# Altium schematic symbol library HW_ADHERENT_LANECTRL_R1.SchLib: 1635 symbols (part 10 of 31)
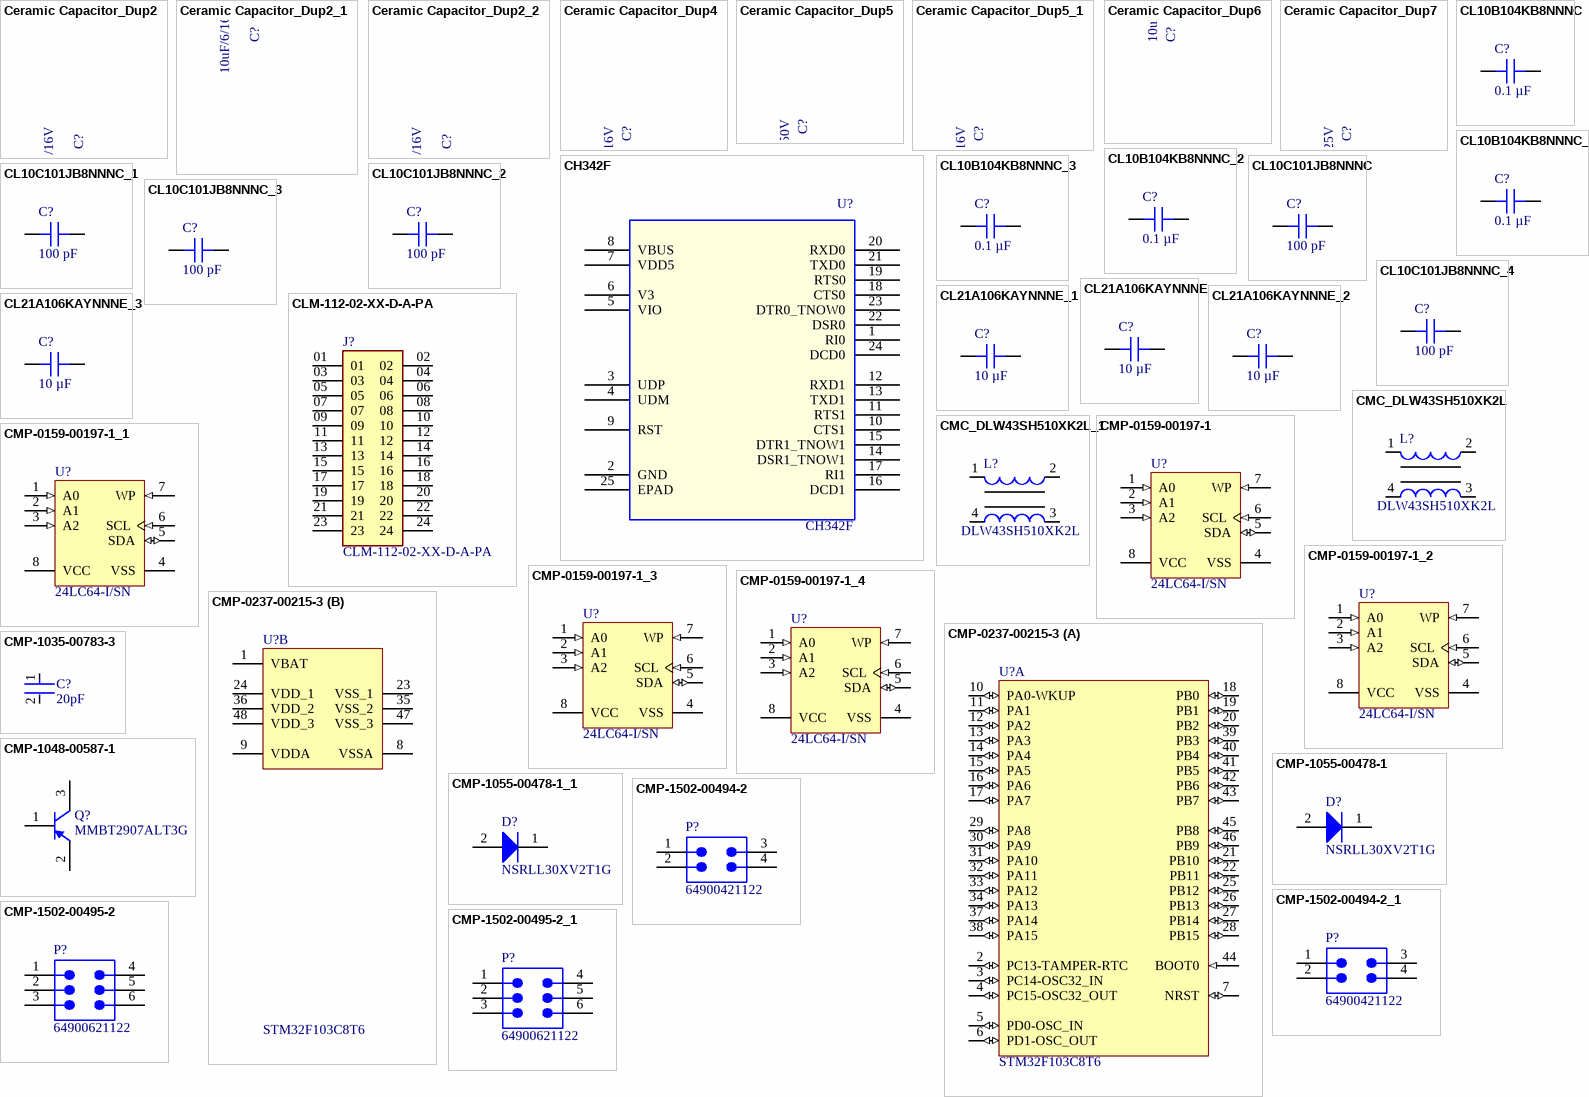
[diagram p60: symbols Ceramic Capacitor_Dup2 to CMP-1502-00495-2_1]

## CMP-0237-00215-3
designator U?, comment STM32F103C8T6
ARM Cortex-M3 32-bit MCU, 64 KB Flash, 20 KB Internal RAM, 37 I/Os, 48-pin LQFP, -40 to 85 degC, Tray; Supply Voltage(Vcc) min (V): 2; Internal RAM Size (kB): 20; FLASH Size (Prog) (kB): 64; A/D Converter: 2x12-bit (10 Channel); I/Os (High Current): 37; Operating Frequency(F) (Processor speed) (MHz): 72; Core: ARM Cortex-M3; ComponentLink3Description: Package Specification; Mounting Technology: Surface Mount; PartNumber: STM32F103C8T6; PackageReference: LQFP48; Packing: Tray; ComponentLink3URL: http://www.st.com/st-web-ui/static/active/en/resource/technical/document/datasheet/DM00058181.pdf; DatasheetVersion: Rev. 16; ComponentLink1URL: http://www.st.com/web/en/home.html; PackageVersion: Rev. 6, 06/2013; ComponentLink2URL: http://www.st.com/st-web-ui/static/active/en/resource/technical/document/datasheet/CD00161566.pdf; ComponentLink1Description: Manufacturer URL; ComponentLink2Description: Datasheet; PackageDescription: 48-Pin Low Profile Quad Flat Package, 7 x 7 mm Body, 0.5 mm Pitch
footprint STM-LQFP48_L (QFP, 48-Leads, Body 7x7mm, Pitch 0.5mm, IPC High Density)
footprint STM-LQFP48_N (QFP, 48-Leads, Body 7x7mm, Pitch 0.5mm, IPC Medium Density)
footprint STM-LQFP48_M (QFP, 48-Leads, Body 7x7mm, Pitch 0.5mm, IPC Low Density)
part A pins: 2 PC13-TAMPER-RTC (io) "PC13-TAMPER-RTC/PC13/TAMPER-RTC", 3 PC14-OSC32_IN (io) "PC14-OSC32_IN/PC14/OSC32_IN", 4 PC15-OSC32_OUT (io) "PC15-OSC32_OUT/PC15/OSC32_OUT", 5 PD0-OSC_IN (io) "PD0/OSC_IN", 6 PD1-OSC_OUT (io) "PD1/OSC_OUT", 7 NRST (io), 10 PA0-WKUP (io) "PA0-WKUP/PA0/WKUP/USART2_CTS/ADC12_IN0/TIM2_CH1_ETR", 11 PA1 (io) "PA1/USART2_RTS/ADC12_IN1/TIM2_CH2", 12 PA2 (io) "PA2/USART2_TX/ADC12_IN2/TIM2_CH3", 13 PA3 (io) "PA3/USART2_RX/ADC12_IN3/TIM2_CH4", 14 PA4 (io) "PA4/SPI1_NSS/USART2_CK/ADC12_IN4", 15 PA5 (io) "PA5/SPI1_SCK/ADC12_IN5", 16 PA6 (io) "PA6/SPI1_MISO/ADC12_IN6/TIM3_CH1/TIM1_BKIN", 17 PA7 (io) "PA7/SPI1_MOSI/ADC12_IN7/TIM3_CH2/TIM1_CH1N", 18 PB0 (io) "PB0/ADC12_IN8/TIM3_CH3/TIM1_CH2N", 19 PB1 (io) "PB1/ADC12_IN9/TIM3_CH4/TIM1_CH3N", 20 PB2 (io) "PB2/BOOT1", 21 PB10 (io) "PB10/I2C2_SCL/USART3_TX/TIM2_CH3", 22 PB11 (io) "PB11/I2C2_SDA/USART3_RX/TIM2_CH4", 25 PB12 (io) "PB12/SPI2_NSS/I2C2_SMBAl/USART3_CK/TIM1_BKIN", 26 PB13 (io) "PB13/SPI2_SCK/USART3_CTS/TIM1_CH1N", 27 PB14 (io) "PB14/SPI2_MISO/USART3_RTS/TIM1_CH2N", 28 PB15 (io) "PB15/SPI2_MOSI/TIM1_CH3N", 29 PA8 (io) "PA8/USART1_CK/TIM1_CH1/MCO", 30 PA9 (io) "PA9/USART1_TX/TIM1_CH2", 31 PA10 (io) "PA10/USART1_RX/TIM1_CH3", 32 PA11 (io) "PA11/USART1_CTS/CANRX/USBDM/TIM1_CH4", 33 PA12 (io) "PA12/USART1_RTS/CANTX/USBDP/TIM1_ETR", 34 PA13 (io) "PA13/JTMS/SWDIO", 37 PA14 (io) "PA14/JTCK/SWCLK", 38 PA15 (io) "PA15/JTDI/TIM2_CH1_ETR/SPI1_NSS", 39 PB3 (io) "PB3/JTDO/TIM2_CH2/TRACESWO/SPI1_SCK", 40 PB4 (io) "PB4/NJTRST/TIM3_CH1/SPI1_MISO", 41 PB5 (io) "PB5/I2C1_SMBAI/TIM3_CH2/SPI1_MOSI", 42 PB6 (io) "PB6/I2C1_SCL/TIM4_CH1/USART1_TX", 43 PB7 (io) "PB7/I2C1_SDA/TIM4_CH2/USART1_RX", 44 BOOT0 (in), 45 PB8 (io) "PB8/TIM4_CH3/I2C1_SCL/CANRX", 46 PB9 (io) "PB9/TIM4_CH4/I2C1_SDA/CANTX"
part B pins: 1 VBAT (power), 8 VSSA (power), 9 VDDA (power), 23 VSS_1 (power), 24 VDD_1 (power), 35 VSS_2 (power), 36 VDD_2 (power), 47 VSS_3 (power), 48 VDD_3 (power)

## CMP-1035-00783-3
designator C?, comment 20pF
CAP CER 20PF 50V 5% NP0 0603; Manufacturer Part Number: C0603C200J5GACTU; Manufacturer: KEMET; Temperature Coefficient: 30ppm/°C; Temperature Characteristic: C0G; Automotive Grade: Grade 1; Tolerance: 0.05; Material: Ceramic; Category: Cap; Temperature Range Low: -55°C; RoHS: TRUE; ComponentLink2URL: https://api.kemet.com/component-edge/download/datasheet/C0603C100J5GACAUTO.pdf; Package: C0603C-CF; Height: 0.87mm; Capacitance: 20 pF; Voltage Rating: 50 V; Octopart: https://octopart.com/c0603c200j5gactu-kemet-9138585; Device Class L1: Passive Components; Automotive: Yes; Digikey Description: CAP CER 20PF 50V 5% NP0 0603; Temperature Range High: +125°C; Device Class L3: Ceramic Capacitors; Mouser Description: Multilayer Ceramic Capacitors MLCC - SMD/SMT 50volts 20pF C0G 5%; ComponentLink2Description: Datasheet; Device Class L2: Capacitors; Lead Free: Yes; Temperature: -55°C to +125°C; Value: 20 pF
footprint FP-C0603C-CF-MFG
footprint FP-C0603C-CF-IPC_C
footprint FP-C0603C-CF-IPC_B
footprint FP-C0603C-CF-IPC_A
pins: 1, 2

## CMP-1048-00587-1
designator Q?, comment MMBT2907ALT3G
General Purpose Transistor, PNP Silicon, 3-Pin SOT-23, Pb-Free, Tape and Reel; Manufacturer: ON Semiconductor; Collector Emitter Voltage (VCEO): 60V; Max Power Dissipation: 300mW; Max Collector Current: 600mA; Emitter Base Voltage (VEBO): 5V; Element Configuration: Single; hFE Min: 75; Number of Elements: 1; Collector Emitter Saturation Voltage: -1.6V; Gain Bandwidth Product: 200MHz; Collector-emitter Voltage-Max: 1.6V; Voltage Rating (DC): -60V; Current Rating: -600mA; Max Frequency: 100MHz; ComponentLink1Description: Manufacturer URL; ComponentLink2Description: Datasheet; ComponentLink2URL: http://www.onsemi.cn/pub_link/Collateral/MMBT2907ALT1-D.PDF; ComponentLink1URL: http://www.onsemi.com/; ComponentLink3Description: Package Specification; ComponentLink3URL: http://www.onsemi.cn/pub_link/Collateral/318-08.PDF; Supplier 1: Digi-Key; Supplier Part Number 1: MMBT2907ALT3GOSCT-ND; Manufacturer Part Number: MMBT2907ALT3G; RoHS: Yes; Category: BJTs; Stock 1: 3486; Pricing 1: 1=0,18000, 10=0,16100, 25=0,15360, 100=0,08790, 500=0,05410, 1000=0,03689, 2500=0,03136, 5000=0,02828 (USD); Case/Package: SOT-23-3; Number of Pins: 3; Contact Plating: Tin,Matte; Min Operating Temperature: -55°C; Max Operating Temperature: 150°C; Packaging: Tape and Reel; Polarity: PNP; Package Quantity: 10000; Collector Base Voltage (VCBO): 60V; Collector Emitter Breakdown Voltage: 60V; Power Dissipation: 300mW; Frequency: 200MHz; Transition Frequency: 200MHz; Max Breakdown Voltage: 60V; Series: -; Length: 3.04mm; Width: 1.4mm; Height: 1.01mm; Radiation Hardening: No; RoHS Compliant: Yes; Lead Free: Lead Free; REACH SVHC: No SVHC; ComponentLink4URL: https://datasheet.ciiva.com/980/mmbt2907alt1-d-980631.pdf?src-supplier=Digi-Key; ComponentLink4Description: https://datasheet.ciiva.com/980/mmbt2907alt1-d-980631.pdf?src-supplier=Digi-Key; ComponentLink5URL: https://datasheet.ciiva.com/16390/mmbt2907alt1-d-16390999.pdf?src-supplier=Future+Electronics; ComponentLink5Description: https://datasheet.ciiva.com/16390/mmbt2907alt1-d-16390999.pdf?src-supplier=Future+Electronics; ComponentLink6URL: https://datasheet.ciiva.com/980/mmbt2907alt1-d-980632.pdf?src-supplier=Digi-Key; ComponentLink6Description: https://datasheet.ciiva.com/980/mmbt2907alt1-d-980632.pdf?src-supplier=Digi-Key; ComponentLink7URL: https://datasheet.ciiva.com/11198/mmbt2907alt1-d-11198984.pdf?src-supplier=Avnet; ComponentLink7Description: https://datasheet.ciiva.com/11198/mmbt2907alt1-d-11198984.pdf?src-supplier=Avnet; ComponentLink8URL: https://datasheet.ciiva.com/980/mmbt2907alt1-d-980633.pdf?src-supplier=Digi-Key; ComponentLink8Description: https://datasheet.ciiva.com/980/mmbt2907alt1-d-980633.pdf?src-supplier=Digi-Key; ComponentLink9URL: https://datasheet.ciiva.com/7972/mmbt2907alt1-d-7972377.pdf?src-supplier=Element14; ComponentLink9Description: https://datasheet.ciiva.com/7972/mmbt2907alt1-d-7972377.pdf?src-supplier=Element14; ComponentLink10URL: https://datasheet.ciiva.com/11198/mmbt2907alt1-d-11198986.pdf?src-supplier=Avnet; ComponentLink10Description: https://datasheet.ciiva.com/11198/mmbt2907alt1-d-11198986.pdf?src-supplier=Avnet
footprint ONSC-SOT-23-3-318-08_V (SOT23, 3-Leads, Body 2.92x1.3mm, Pitch 0.95mm)
pins: 1 B, 2 E, 3 C

## CMP-1055-00478-1
designator D?, comment NSRLL30XV2T1G
Schottky Barrier Diode, 2-Pin SOD-523, Pb-Free, Tape and Reel; Manufacturer: On Semiconductor; Configuration: Single; PackageReference: SOD-523-2-502-01; PackageVersion: Rev. E, 09/2010; ComponentLink1Description: Manufacturer URL; ComponentLink2URL: http://www.onsemi.cn/pub_link/Collateral/NSRLL30XV2-D.PDF; PartNumber: NSRLL30XV2T1G; PackageDescription: 2-Pin SOD, Body 1.2 x 0.8 mm; RoHS: TRUE; Mounting Technology: Surface Mount; ComponentLink3URL: http://www.onsemi.com/pub_link/Collateral/502-01.PDF; ComponentLink3Description: Package Specification; Packing: Tape and Reel; ComponentLink2Description: Datasheet; DatasheetVersion: Rev. 1; ComponentLink1URL: http://www.onsemi.com/; Manufacturer: ON Semiconductor; Manufacturer Part Number: NSRLL30XV2T1G
footprint ONSC-SOD-523-2-502-01_V (SOD, 2-Leads, Body 1.2x0.8mm)
pins: 1 K, 2 A

## CMP-1055-00478-1_1
designator D?, comment NSRLL30XV2T1G
Schottky Barrier Diode, 2-Pin SOD-523, Pb-Free, Tape and Reel; Manufacturer: On Semiconductor; Configuration: Single; PackageReference: SOD-523-2-502-01; PackageVersion: Rev. E, 09/2010; ComponentLink1Description: Manufacturer URL; ComponentLink2URL: http://www.onsemi.cn/pub_link/Collateral/NSRLL30XV2-D.PDF; PartNumber: NSRLL30XV2T1G; PackageDescription: 2-Pin SOD, Body 1.2 x 0.8 mm; RoHS: TRUE; Mounting Technology: Surface Mount; ComponentLink3URL: http://www.onsemi.com/pub_link/Collateral/502-01.PDF; ComponentLink3Description: Package Specification; Packing: Tape and Reel; ComponentLink2Description: Datasheet; DatasheetVersion: Rev. 1; ComponentLink1URL: http://www.onsemi.com/; Manufacturer: ON Semiconductor; Manufacturer Part Number: NSRLL30XV2T1G
footprint ONSC-SOD-523-2-502-01_V (SOD, 2-Leads, Body 1.2x0.8mm)
pins: 1 K, 2 A

## CMP-1502-00494-2
designator P?, comment 64900421122
NexarPartId: 8917579; Manufacturer: Wurth Electronics; Lead Length: 3.5mm; Pitch: 4.2mm; Number of Contacts: 4; Contact Resistance: 10mΩ; Gender: Male; Connector Type: Male Pin, Socket; Voltage Rating: 600V; Insulation Resistance: 1GΩ; Row Spacing: 5.5118mm; Current Rating: 8A; RoHS: Compliant; Number of Rows: 2; Housing Material: Nylon; Min Operating Temperature: -40°C; Flammability Rating: UL94 V-0; Contact Plating: Tin; REACH SVHC: Unknown; Orientation: Vertical; Contact Material: Copper; Mount: Through Hole; Max Operating Temperature: 105°C; Number of Pins: 4; Width: 9.7mm; Termination: Through Hole; Lead Pitch: 4.2mm; Number of Positions: 4; Contact Gender: Male; Color: White; Height: 12.8mm; Fastening Type: Ramp; Operating Supply Voltage: 600V; Length: 9.6mm; Manufacturer Part Number: 64900421122
footprint 64900421122 (Connector, 4.20mm Male Dual Row Vertical Header, 4 Pins, WR-MPC4)
pins: 1, 2, 3, 4

## CMP-1502-00494-2_1
designator P?, comment 64900421122
NexarPartId: 8917579; Manufacturer: Wurth Electronics; Lead Length: 3.5mm; Pitch: 4.2mm; Number of Contacts: 4; Contact Resistance: 10mΩ; Gender: Male; Connector Type: Male Pin, Socket; Voltage Rating: 600V; Insulation Resistance: 1GΩ; Row Spacing: 5.5118mm; Current Rating: 8A; RoHS: Compliant; Number of Rows: 2; Housing Material: Nylon; Min Operating Temperature: -40°C; Flammability Rating: UL94 V-0; Contact Plating: Tin; REACH SVHC: Unknown; Orientation: Vertical; Contact Material: Copper; Mount: Through Hole; Max Operating Temperature: 105°C; Number of Pins: 4; Width: 9.7mm; Termination: Through Hole; Lead Pitch: 4.2mm; Number of Positions: 4; Contact Gender: Male; Color: White; Height: 12.8mm; Fastening Type: Ramp; Operating Supply Voltage: 600V; Length: 9.6mm; Manufacturer Part Number: 64900421122
footprint 64900421122 (Connector, 4.20mm Male Dual Row Vertical Header, 4 Pins, WR-MPC4)
pins: 1, 2, 3, 4

## CMP-1502-00495-2
designator P?, comment 64900621122
NexarPartId: 8917580; Manufacturer: Wurth Electronics; Voltage Rating: 600V; Number of Positions: 6; Gender: Male; Row Spacing: 5.5118mm; Contact Resistance: 10mΩ; Connector Type: Male Pin, Socket; Pitch: 4.2mm; Insulation Resistance: 1GΩ; Current Rating: 8A; Lead Length: 3.5mm; Housing Material: Nylon; Length: 13.8mm; Fastening Type: Ramp; Orientation: Vertical; RoHS: Compliant; Mount: Through Hole; Number of Contacts: 6; Max Operating Temperature: 105°C; Termination: Through Hole; REACH SVHC: Unknown; Color: White; Contact Gender: Male; Lead Pitch: 4.2mm; Flammability Rating: UL94 V-0; Operating Supply Voltage: 600V; Width: 13.9mm; Min Operating Temperature: -40°C; Contact Material: Copper; Number of Rows: 2; Number of Pins: 6; Contact Plating: Tin; Height: 12.8mm; Manufacturer Part Number: 64900621122
footprint 64900621122 (WR-MPC4; 4.2mm Pitch 6 Way 2 Row Shrouded Straight PCB Header, Through Hole)
pins: 1, 2, 3, 4, 5, 6

## CMP-1502-00495-2_1
designator P?, comment 64900621122
NexarPartId: 8917580; Manufacturer: Wurth Electronics; Voltage Rating: 600V; Number of Positions: 6; Gender: Male; Row Spacing: 5.5118mm; Contact Resistance: 10mΩ; Connector Type: Male Pin, Socket; Pitch: 4.2mm; Insulation Resistance: 1GΩ; Current Rating: 8A; Lead Length: 3.5mm; Housing Material: Nylon; Length: 13.8mm; Fastening Type: Ramp; Orientation: Vertical; RoHS: Compliant; Mount: Through Hole; Number of Contacts: 6; Max Operating Temperature: 105°C; Termination: Through Hole; REACH SVHC: Unknown; Color: White; Contact Gender: Male; Lead Pitch: 4.2mm; Flammability Rating: UL94 V-0; Operating Supply Voltage: 600V; Width: 13.9mm; Min Operating Temperature: -40°C; Contact Material: Copper; Number of Rows: 2; Number of Pins: 6; Contact Plating: Tin; Height: 12.8mm; Manufacturer Part Number: 64900621122
footprint 64900621122 (WR-MPC4; 4.2mm Pitch 6 Way 2 Row Shrouded Straight PCB Header, Through Hole)
pins: 1, 2, 3, 4, 5, 6

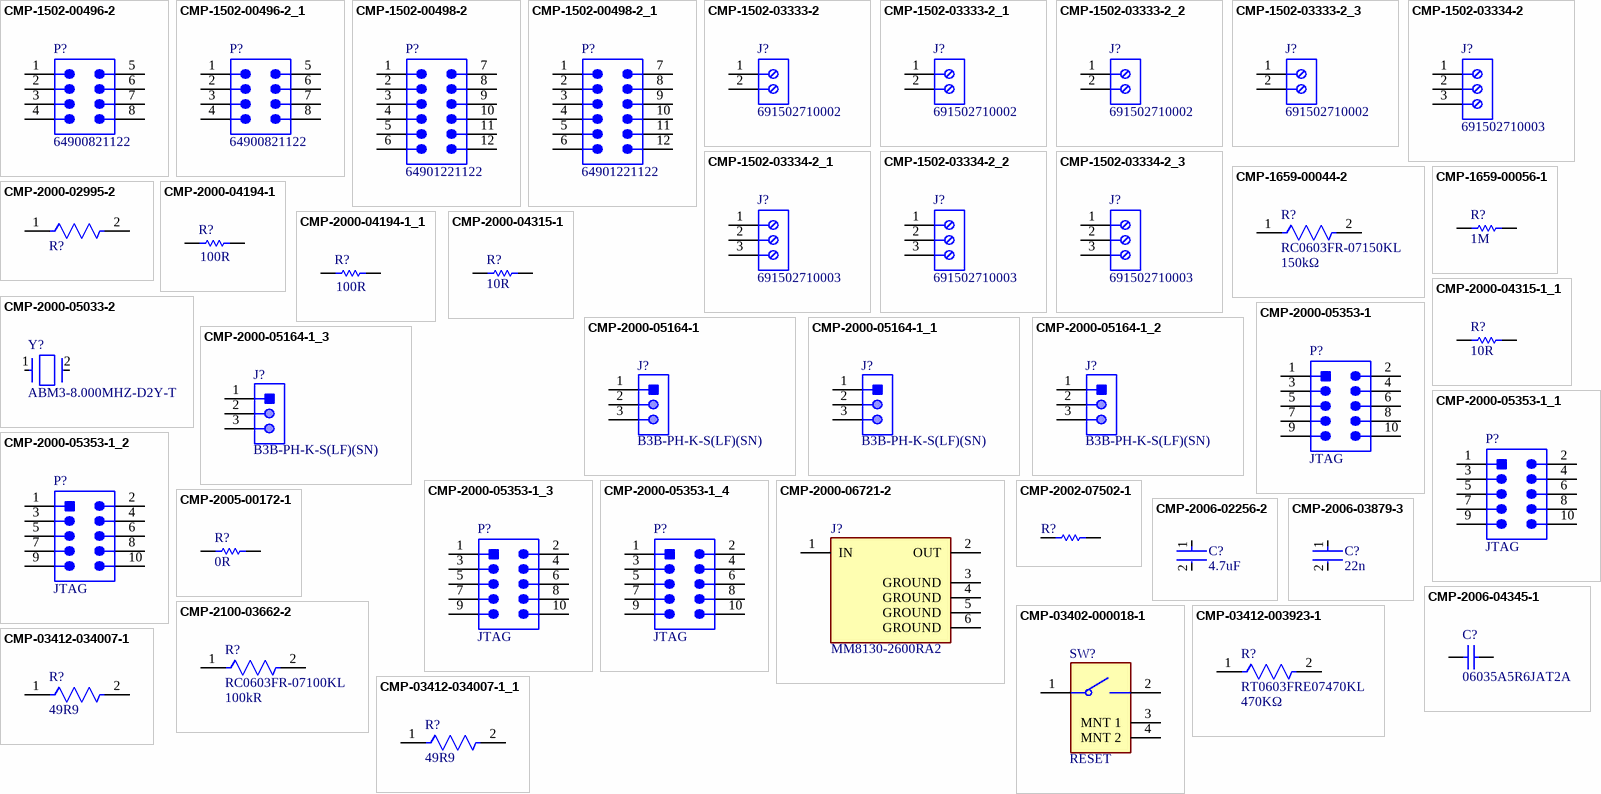
[diagram p13: symbols CMP-1502-00496-2 to CMP-03412-034007-1_1]

## CMP-1502-00496-2
designator P?, comment 64900821122
NexarPartId: 8917581; Manufacturer: Wurth Electronics; Connector Type: Male Pin, Socket; Operating Supply Voltage: 600V; Pitch: 4.2mm; Gender: Male; Number of Positions: 8; Contact Resistance: 10mΩ; Insulation Resistance: 1GΩ; Row Spacing: 5.5118mm; Current Rating: 7A; Insulation: Insulated; Flammability Rating: UL94 V-0; Max Operating Temperature: 105°C; Orientation: Vertical; Min Operating Temperature: -40°C; Contact Gender: Male; Number of Pins: 8; Lead Pitch: 4.2mm; Width: 18.1mm; Height: 9.6mm; REACH SVHC: Unknown; Number of Rows: 2; Number of Contacts: 8; Fastening Type: Ramp; Termination: Through Hole; Housing Material: Nylon; Contact Plating: Tin; Length: 18mm; Contact Material: Copper; Voltage Rating: 600V; RoHS: Compliant; Mount: Through Hole; Color: White; Manufacturer Part Number: 64900821122
footprint 64900821122 (WR-MPC4; 4.2mm Pitch 8 Way 2 Row Shrouded Straight PCB Header, Through Hole)
pins: 1, 2, 3, 4, 5, 6, 7, 8

## CMP-1502-00496-2_1
designator P?, comment 64900821122
NexarPartId: 8917581; Manufacturer: Wurth Electronics; Connector Type: Male Pin, Socket; Operating Supply Voltage: 600V; Pitch: 4.2mm; Gender: Male; Number of Positions: 8; Contact Resistance: 10mΩ; Insulation Resistance: 1GΩ; Row Spacing: 5.5118mm; Current Rating: 7A; Insulation: Insulated; Flammability Rating: UL94 V-0; Max Operating Temperature: 105°C; Orientation: Vertical; Min Operating Temperature: -40°C; Contact Gender: Male; Number of Pins: 8; Lead Pitch: 4.2mm; Width: 18.1mm; Height: 9.6mm; REACH SVHC: Unknown; Number of Rows: 2; Number of Contacts: 8; Fastening Type: Ramp; Termination: Through Hole; Housing Material: Nylon; Contact Plating: Tin; Length: 18mm; Contact Material: Copper; Voltage Rating: 600V; RoHS: Compliant; Mount: Through Hole; Color: White; Manufacturer Part Number: 64900821122
footprint 64900821122 (WR-MPC4; 4.2mm Pitch 8 Way 2 Row Shrouded Straight PCB Header, Through Hole)
pins: 1, 2, 3, 4, 5, 6, 7, 8

## CMP-1502-00498-2
designator P?, comment 64901221122
NexarPartId: 23024617; Manufacturer: Wurth Electronics; Connector Type: Male Pin, Socket; Row Spacing: 4.191mm; Contact Resistance: 10mΩ; Number of Positions: 12; Insulation Resistance: 1GΩ; Current Rating: 6A; Pitch: 4.2mm; Gender: Male; Operating Supply Voltage: 600V; Min Operating Temperature: -40°C; Height: 12.8mm; Termination: Solder; Contact Material: Copper; Orientation: Vertical; Color: White; Length: 26.4mm; Number of Rows: 2; Mount: Through Hole; Width: 26.5mm; Contact Plating: Tin; RoHS: Compliant; Fastening Type: Ramp; Max Operating Temperature: 105°C; Lead Pitch: 4.2mm; Number of Contacts: 12; REACH SVHC: Unknown; Number of Pins: 12; Manufacturer Part Number: 64901221122
footprint 64901221122 (Connector, 4.20mm Male Dual Row Vertical Header, 12 Pins, WR-MPC4)
pins: 1, 2, 3, 4, 5, 6, 7, 8, 9, 10, 11, 12

## CMP-1502-00498-2_1
designator P?, comment 64901221122
NexarPartId: 23024617; Manufacturer: Wurth Electronics; Connector Type: Male Pin, Socket; Row Spacing: 4.191mm; Contact Resistance: 10mΩ; Number of Positions: 12; Insulation Resistance: 1GΩ; Current Rating: 6A; Pitch: 4.2mm; Gender: Male; Operating Supply Voltage: 600V; Min Operating Temperature: -40°C; Height: 12.8mm; Termination: Solder; Contact Material: Copper; Orientation: Vertical; Color: White; Length: 26.4mm; Number of Rows: 2; Mount: Through Hole; Width: 26.5mm; Contact Plating: Tin; RoHS: Compliant; Fastening Type: Ramp; Max Operating Temperature: 105°C; Lead Pitch: 4.2mm; Number of Contacts: 12; REACH SVHC: Unknown; Number of Pins: 12; Manufacturer Part Number: 64901221122
footprint 64901221122 (Connector, 4.20mm Male Dual Row Vertical Header, 12 Pins, WR-MPC4)
pins: 1, 2, 3, 4, 5, 6, 7, 8, 9, 10, 11, 12

## CMP-1502-03333-2
designator J?, comment 691502710002
NexarPartId: 106069304; Pitch: 5mm; Packaging: Box; Length: 10mm; Max Operating Temperature: 130°C; Min Operating Temperature: -45°C; Number of Pins: 2
footprint 691502710002 (Terminal Block, Wtb, 2Way, 22-14Awg Rohs Compliant: Yes)
pins: 1, 2

## CMP-1502-03333-2_1
designator J?, comment 691502710002
NexarPartId: 106069304; Pitch: 5mm; Packaging: Box; Length: 10mm; Max Operating Temperature: 130°C; Min Operating Temperature: -45°C; Number of Pins: 2
footprint 691502710002 (Terminal Block, Wtb, 2Way, 22-14Awg Rohs Compliant: Yes)
pins: 1, 2

## CMP-1502-03333-2_2
designator J?, comment 691502710002
NexarPartId: 106069304; Pitch: 5mm; Packaging: Box; Length: 10mm; Max Operating Temperature: 130°C; Min Operating Temperature: -45°C; Number of Pins: 2
footprint 691502710002 (Terminal Block, Wtb, 2Way, 22-14Awg Rohs Compliant: Yes)
pins: 1, 2

## CMP-1502-03333-2_3
designator J?, comment 691502710002
NexarPartId: 106069304; Pitch: 5mm; Packaging: Box; Length: 10mm; Max Operating Temperature: 130°C; Min Operating Temperature: -45°C; Number of Pins: 2
footprint 691502710002 (Terminal Block, Wtb, 2Way, 22-14Awg Rohs Compliant: Yes)
pins: 1, 2

## CMP-1502-03334-2
designator J?, comment 691502710003
NexarPartId: 106069305; Pitch: 5mm; Max Operating Temperature: 130°C; Min Operating Temperature: -45°C; Length: 15mm; Packaging: Box; Number of Pins: 3
footprint 691502710003 (Terminal Block, Wtb, 3Way, 22-14Awg Rohs Compliant: Yes)
pins: 1, 2, 3

## CMP-1502-03334-2_1
designator J?, comment 691502710003
NexarPartId: 106069305; Pitch: 5mm; Max Operating Temperature: 130°C; Min Operating Temperature: -45°C; Length: 15mm; Packaging: Box; Number of Pins: 3
footprint 691502710003 (Terminal Block, Wtb, 3Way, 22-14Awg Rohs Compliant: Yes)
pins: 1, 2, 3

## CMP-1502-03334-2_2
designator J?, comment 691502710003
NexarPartId: 106069305; Pitch: 5mm; Max Operating Temperature: 130°C; Min Operating Temperature: -45°C; Length: 15mm; Packaging: Box; Number of Pins: 3
footprint 691502710003 (Terminal Block, Wtb, 3Way, 22-14Awg Rohs Compliant: Yes)
pins: 1, 2, 3

## CMP-1502-03334-2_3
designator J?, comment 691502710003
NexarPartId: 106069305; Pitch: 5mm; Max Operating Temperature: 130°C; Min Operating Temperature: -45°C; Length: 15mm; Packaging: Box; Number of Pins: 3
footprint 691502710003 (Terminal Block, Wtb, 3Way, 22-14Awg Rohs Compliant: Yes)
pins: 1, 2, 3

## CMP-1659-00044-2
designator R?, comment RC0603FR-07150KL  Resistance: 150kΩ
NexarPartId: 40301068; Voltage Rating (AC): 50V; Max Power Dissipation: 100mW; Tolerance: 1%; Temperature Coefficient: 100ppm/°C; Max Operating Temperature: 155°C; Features: Moisture Resistant; Width: 800µm; Case Code (Imperial): 0603; Depth: 800µm; Number of Terminations: 2; Voltage Rating (DC): 50V; Mount: Surface Mount; Termination: SMD/SMT; REACH SVHC: No SVHC; Military Standard: Not; Case Code (Metric): 1608; Schedule B: 8533210045, 8533210045; Number of Pins: 2; Min Operating Temperature: -55°C; Lead Free: Lead Free; Packaging: Tape & Reel; Length: 1.6mm; Height: 450µm; Power Rating: 100mW; Voltage Rating: 50V; Case/Package: 0603; Composition: Thick Film; RoHS: Compliant
footprint FP-RC0603-0_55-MFG (SMD Chip Resistor, 3.3 kOhm, ± 1%, 100 mW, 0603 [1608 Metric], Thick Film, General Purpose)
footprint FP-RC0603-0_55-IPC_A (SMD Chip Resistor, 3.3 kOhm, ± 1%, 100 mW, 0603 [1608 Metric], Thick Film, General Purpose)
footprint FP-RC0603-0_55-IPC_B (SMD Chip Resistor, 3.3 kOhm, ± 1%, 100 mW, 0603 [1608 Metric], Thick Film, General Purpose)
footprint FP-RC0603-0_55-IPC_C (SMD Chip Resistor, 3.3 kOhm, ± 1%, 100 mW, 0603 [1608 Metric], Thick Film, General Purpose)
pins: 1, 2

## CMP-1659-00056-1
designator R?, comment 1M
Chip Resistor, 1 MOhm, +/- 1%, 100 mW, -55 to 155 degC, 0603 (1608 Metric), RoHS, Tape and Reel; Voltage Rating (DC): 25 V; Tolerance: 20%; Case\Package: Radial; Capacitance: 1 mF; Min Operating Temperature: -40 degC; PackageDescription: 2-Pin Surface Mount Device, Body 1.6 x 0.8 mm; ComponentLink1Description: Manufacturer URL; Radiation Hardening: No; DatasheetVersion: Rev. 4, 02/2016; REACH SVHC: No SVHC; Length: 20 mm; Max Operating Temperature: 85 degC; Diameter: 10 mm; Packaging: Bulk; Package Quantity: 200; PackageReference: 0603; Mount: Through Hole; ComponentLink1URL: http://www.yageo.com/; ComponentLink2URL: http://www.yageo.com/documents/recent/PYu-RC_Group_51_RoHS_L_04.pdf; ComponentLink2Description: Datasheet; Width: 0 inch; Lead Pitch: 5 mm; RoHSCompliant: true; Voltage Rating: 25 V; Height: 20 mm
footprint RESC1608X55X25LL10T15 (Chip Resistor, 2-Leads, Body 1.70x0.90mm, IPC High Density)
footprint RESC1608X55X25ML10T15 (Chip Resistor, 2-Leads, Body 1.70x0.90mm, IPC Low Density)
footprint RESC1608X55X25NL10T15 (Chip Resistor, 2-Leads, Body 1.70x0.90mm, IPC Medium Density)
pins: 1, 2

## CMP-2000-02995-2
designator R?, comment CRCW06031K50FKEA  (value not drawn)
RES Thick Film, 1.5kΩ, 1%, 0.1W, 100ppm/°C, 0603; Working Voltage: 75V; Power Rating: 100mW; Resistance: 1.5kR; Max Operating Temperature: 155°C; Features: Automotive AEC-Q200; Min Operating Temperature: -55°C; Width: 0.033inch; Case/Package: 0603; Voltage Rating (DC): 75V; Termination: SMD/SMT; Mount: Surface Mount; Weight: 7.1E-05oz; Case Code (Metric): 1608; Height: 0.45mm; Voltage Rating: 75V; Length: 1.55mm; Package Quantity: 10; Lead Free: Lead Free; Composition: Thick Film; Packaging: Tape and Reel; Temperature Coefficient: 100ppm/°C; Tolerance: 1%; Military Standard: Not; Case Code (Imperial): 0603; Number of Terminations: 2; Max Power Dissipation: 100mW; Depth: 0.85mm; Contact Plating: Tin
footprint FP-CRCW0603-e3-IPC_A
footprint FP-CRCW0603-e3-IPC_B
footprint FP-CRCW0603-e3-IPC_C
footprint FP-CRCW0603-e3-MFG
pins: 1, 2

## CMP-2000-04194-1
designator R?, comment 100R
Part Number: RC0603FR-13100RL; Manufacturer: Yageo; Manufacturer Part Number: RC0603FR-13100RL
footprint RESC1608X55X25NL10T15 (Chip Resistor, 2-Leads, Body 1.60x0.80mm, IPC Medium Density)
footprint RESC1608X55X25LL10T15 (Chip Resistor, 2-Leads, Body 1.60x0.80mm, IPC High Density)
footprint RESC1608X55X25ML10T15 (Chip Resistor, 2-Leads, Body 1.60x0.80mm, IPC Low Density)
pins: 1, 2
1 alternate drawing of the same symbol

## CMP-2000-04194-1_1
designator R?, comment 100R
Part Number: RC0603FR-13100RL; Manufacturer: Yageo; Manufacturer Part Number: RC0603FR-13100RL
footprint RESC1608X55X25NL10T15 (Chip Resistor, 2-Leads, Body 1.60x0.80mm, IPC Medium Density)
footprint RESC1608X55X25LL10T15 (Chip Resistor, 2-Leads, Body 1.60x0.80mm, IPC High Density)
footprint RESC1608X55X25ML10T15 (Chip Resistor, 2-Leads, Body 1.60x0.80mm, IPC Low Density)
pins: 1, 2
1 alternate drawing of the same symbol

## CMP-2000-04315-1
designator R?, comment 10R
Part Number: RC0603JR-1310RL; Manufacturer: Yageo; Manufacturer Part Number: RC0603JR-1310RL
footprint RESC1608X55X25LL10T15 (Chip Resistor, 2-Leads, Body 1.60x0.80mm, IPC High Density)
footprint RESC1608X55X25ML10T15 (Chip Resistor, 2-Leads, Body 1.60x0.80mm, IPC Low Density)
footprint RESC1608X55X25NL10T15 (Chip Resistor, 2-Leads, Body 1.60x0.80mm, IPC Medium Density)
pins: 1, 2
1 alternate drawing of the same symbol

## CMP-2000-04315-1_1
designator R?, comment 10R
Part Number: RC0603JR-1310RL; Manufacturer: Yageo; Manufacturer Part Number: RC0603JR-1310RL
footprint RESC1608X55X25LL10T15 (Chip Resistor, 2-Leads, Body 1.60x0.80mm, IPC High Density)
footprint RESC1608X55X25ML10T15 (Chip Resistor, 2-Leads, Body 1.60x0.80mm, IPC Low Density)
footprint RESC1608X55X25NL10T15 (Chip Resistor, 2-Leads, Body 1.60x0.80mm, IPC Medium Density)
pins: 1, 2
1 alternate drawing of the same symbol

## CMP-2000-05033-2
designator Y?, comment ABM3-8.000MHZ-D2Y-T
Crystal 8MHz ±20ppm 18pF SMD-2 5mm x 3.2mm; Series Resistance: 500R; Frequency Stability: 30ppm; ESR (Equivalent Series Resistance): 140R; Load Capacitance: 18pF; Height: 0.051inch; Tolerance: 20ppm; Depth: 3.2mm; Max Operating Temperature: 85°C; Frequency: 8MHz; Termination: SMD/SMT; Lead Free: Lead Free; Number of Pins: 2; Width: 3.2mm; RoHS Compliant: Yes; Resistor Type: Ceramic; Length: 5mm; Mount: Surface Mount; Case/Package: CSMD; Package Quantity: 1000; Radiation Hardening: No; Min Operating Temperature: -40°C; Packaging: Tape and Reel; Frequency Tolerance: 20ppm
footprint FP-ABM3-MFG
pins: 1, 2

## CMP-2000-05164-1
designator J?, comment B3B-PH-K-S(LF)(SN)
Male Header, Pitch 2 mm, 1 x 3 Position, Height 6 mm, Tail Length 3.4 mm, -25 to 85 degC, RoHS, Bulk; Manufacturer: JST; Style/Orientation: StraightHeader/Plug; Pitch: 2mm; No of Positions: 3; Termination: Crimp; Manufacturer URL: http://www.jst.com/home2.html; Datasheet Version: Oct-06; Type: ShroudedHeader; Datasheet URL: https://datasheet.ciiva.com/11746/0900766b80826550-11746939.pdf
footprint JST-B3B-PH-K-S-3_V (Connector, 3-Leads, Body 7.9x4.5mm, Pitch 2mm)
pins: 1, 2, 3

## CMP-2000-05164-1_1
designator J?, comment B3B-PH-K-S(LF)(SN)
Male Header, Pitch 2 mm, 1 x 3 Position, Height 6 mm, Tail Length 3.4 mm, -25 to 85 degC, RoHS, Bulk; Manufacturer: JST; Style/Orientation: StraightHeader/Plug; Pitch: 2mm; No of Positions: 3; Termination: Crimp; Manufacturer URL: http://www.jst.com/home2.html; Datasheet Version: Oct-06; Type: ShroudedHeader; Datasheet URL: https://datasheet.ciiva.com/11746/0900766b80826550-11746939.pdf
footprint JST-B3B-PH-K-S-3_V (Connector, 3-Leads, Body 7.9x4.5mm, Pitch 2mm)
pins: 1, 2, 3

## CMP-2000-05164-1_2
designator J?, comment B3B-PH-K-S(LF)(SN)
Male Header, Pitch 2 mm, 1 x 3 Position, Height 6 mm, Tail Length 3.4 mm, -25 to 85 degC, RoHS, Bulk; Manufacturer: JST; Style/Orientation: StraightHeader/Plug; Pitch: 2mm; No of Positions: 3; Termination: Crimp; Manufacturer URL: http://www.jst.com/home2.html; Datasheet Version: Oct-06; Type: ShroudedHeader; Datasheet URL: https://datasheet.ciiva.com/11746/0900766b80826550-11746939.pdf
footprint JST-B3B-PH-K-S-3_V (Connector, 3-Leads, Body 7.9x4.5mm, Pitch 2mm)
pins: 1, 2, 3

## CMP-2000-05164-1_3
designator J?, comment B3B-PH-K-S(LF)(SN)
Male Header, Pitch 2 mm, 1 x 3 Position, Height 6 mm, Tail Length 3.4 mm, -25 to 85 degC, RoHS, Bulk; Manufacturer: JST; Style/Orientation: StraightHeader/Plug; Pitch: 2mm; No of Positions: 3; Termination: Crimp; Manufacturer URL: http://www.jst.com/home2.html; Datasheet Version: Oct-06; Type: ShroudedHeader; Datasheet URL: https://datasheet.ciiva.com/11746/0900766b80826550-11746939.pdf
footprint JST-B3B-PH-K-S-3_V (Connector, 3-Leads, Body 7.9x4.5mm, Pitch 2mm)
pins: 1, 2, 3

## CMP-2000-05353-1
designator P?, comment JTAG
CONN HEADER SMD 10POS 1.27MM; Manufacturer: Samtec; Manufacturer Part Number: FTSH-105-01-L-DV-K; Number of Contacts: 10; Gender: Male; Max Current Rating: 1.75A; Connector Type: Male Pin; Row Spacing: 0.05inch; ComponentLink1URL: https://datasheet.ciiva.com/26936/getdatasheetpartid-175877-26936879.pdf?src-supplier=Verical; ComponentLink1Description: https://datasheet.ciiva.com/26936/getdatasheetpartid-175877-26936879.pdf?src-supplier=Verical; ComponentLink2URL: https://datasheet.ciiva.com/728/ftsh-1xx-xx-xxx-dv-xxx-mkt-728872.pdf?src-supplier=Digi-Key; ComponentLink2Description: https://datasheet.ciiva.com/728/ftsh-1xx-xx-xxx-dv-xxx-mkt-728872.pdf?src-supplier=Digi-Key; ComponentLink3URL: https://datasheet.ciiva.com/10245/ftsh-mt-10245272.pdf?src-supplier=Avnet; ComponentLink3Description: https://datasheet.ciiva.com/10245/ftsh-mt-10245272.pdf?src-supplier=Avnet; ComponentLink4URL: https://datasheet.ciiva.com/16657/ftsh-mt-16657372.pdf?src-supplier=Avnet+Europe; ComponentLink4Description: https://datasheet.ciiva.com/16657/ftsh-mt-16657372.pdf?src-supplier=Avnet+Europe; ComponentLink5URL: https://datasheet.ciiva.com/22703/ftsh-smt-22703900.pdf?src-supplier=Element14; ComponentLink5Description: https://datasheet.ciiva.com/22703/ftsh-smt-22703900.pdf?src-supplier=Element14; Supplier 1: Digi-Key; Supplier Part Number 1: SAM8799-ND; RoHS: Yes; Category: Headers and Wire Housings; Stock 1: 34196; Pricing 1: 1=3,91000, 10=3,75700, 100=3,13100, 500=2,66136, 1000=2,26998 (USD); Mount: Surface Mount; Contact Plating: Gold; Contact Material: Bronze; Housing Color: Black; Housing Material: Polymer; Color: Black; Min Operating Temperature: -55°C; Max Operating Temperature: 125°C; Number of Rows: 2; Termination: Solder; Packaging: Rail/Tube; Orientation: Straight; Package Quantity: 1; Number of Positions: 10; Series: FTSH; Contact Type: Male Pin; Length: 6.35mm; Pitch: 1.27mm; Depth: 3.43mm; Contact Mating Length: 0.12inch; Radiation Hardening: No; Lead Free: Lead Free; RoHS Compliant: Yes; REACH SVHC: No SVHC
footprint SMTC-FTSH-105-01-L-DV-K_V (CONN, 10-Leads, Body 6.35x3.43mm, Pitch 1.27mm)
pins: 1, 2, 3, 4, 5, 6, 7, 8, 9, 10

## CMP-2000-05353-1_1
designator P?, comment JTAG
CONN HEADER SMD 10POS 1.27MM; Manufacturer: Samtec; Manufacturer Part Number: FTSH-105-01-L-DV-K; Number of Contacts: 10; Gender: Male; Max Current Rating: 1.75A; Connector Type: Male Pin; Row Spacing: 0.05inch; ComponentLink1URL: https://datasheet.ciiva.com/26936/getdatasheetpartid-175877-26936879.pdf?src-supplier=Verical; ComponentLink1Description: https://datasheet.ciiva.com/26936/getdatasheetpartid-175877-26936879.pdf?src-supplier=Verical; ComponentLink2URL: https://datasheet.ciiva.com/728/ftsh-1xx-xx-xxx-dv-xxx-mkt-728872.pdf?src-supplier=Digi-Key; ComponentLink2Description: https://datasheet.ciiva.com/728/ftsh-1xx-xx-xxx-dv-xxx-mkt-728872.pdf?src-supplier=Digi-Key; ComponentLink3URL: https://datasheet.ciiva.com/10245/ftsh-mt-10245272.pdf?src-supplier=Avnet; ComponentLink3Description: https://datasheet.ciiva.com/10245/ftsh-mt-10245272.pdf?src-supplier=Avnet; ComponentLink4URL: https://datasheet.ciiva.com/16657/ftsh-mt-16657372.pdf?src-supplier=Avnet+Europe; ComponentLink4Description: https://datasheet.ciiva.com/16657/ftsh-mt-16657372.pdf?src-supplier=Avnet+Europe; ComponentLink5URL: https://datasheet.ciiva.com/22703/ftsh-smt-22703900.pdf?src-supplier=Element14; ComponentLink5Description: https://datasheet.ciiva.com/22703/ftsh-smt-22703900.pdf?src-supplier=Element14; Supplier 1: Digi-Key; Supplier Part Number 1: SAM8799-ND; RoHS: Yes; Category: Headers and Wire Housings; Stock 1: 34196; Pricing 1: 1=3,91000, 10=3,75700, 100=3,13100, 500=2,66136, 1000=2,26998 (USD); Mount: Surface Mount; Contact Plating: Gold; Contact Material: Bronze; Housing Color: Black; Housing Material: Polymer; Color: Black; Min Operating Temperature: -55°C; Max Operating Temperature: 125°C; Number of Rows: 2; Termination: Solder; Packaging: Rail/Tube; Orientation: Straight; Package Quantity: 1; Number of Positions: 10; Series: FTSH; Contact Type: Male Pin; Length: 6.35mm; Pitch: 1.27mm; Depth: 3.43mm; Contact Mating Length: 0.12inch; Radiation Hardening: No; Lead Free: Lead Free; RoHS Compliant: Yes; REACH SVHC: No SVHC
footprint SMTC-FTSH-105-01-L-DV-K_V (CONN, 10-Leads, Body 6.35x3.43mm, Pitch 1.27mm)
pins: 1, 2, 3, 4, 5, 6, 7, 8, 9, 10

## CMP-2000-05353-1_2
designator P?, comment JTAG
CONN HEADER SMD 10POS 1.27MM; Manufacturer: Samtec; Manufacturer Part Number: FTSH-105-01-L-DV-K; Number of Contacts: 10; Gender: Male; Max Current Rating: 1.75A; Connector Type: Male Pin; Row Spacing: 0.05inch; ComponentLink1URL: https://datasheet.ciiva.com/26936/getdatasheetpartid-175877-26936879.pdf?src-supplier=Verical; ComponentLink1Description: https://datasheet.ciiva.com/26936/getdatasheetpartid-175877-26936879.pdf?src-supplier=Verical; ComponentLink2URL: https://datasheet.ciiva.com/728/ftsh-1xx-xx-xxx-dv-xxx-mkt-728872.pdf?src-supplier=Digi-Key; ComponentLink2Description: https://datasheet.ciiva.com/728/ftsh-1xx-xx-xxx-dv-xxx-mkt-728872.pdf?src-supplier=Digi-Key; ComponentLink3URL: https://datasheet.ciiva.com/10245/ftsh-mt-10245272.pdf?src-supplier=Avnet; ComponentLink3Description: https://datasheet.ciiva.com/10245/ftsh-mt-10245272.pdf?src-supplier=Avnet; ComponentLink4URL: https://datasheet.ciiva.com/16657/ftsh-mt-16657372.pdf?src-supplier=Avnet+Europe; ComponentLink4Description: https://datasheet.ciiva.com/16657/ftsh-mt-16657372.pdf?src-supplier=Avnet+Europe; ComponentLink5URL: https://datasheet.ciiva.com/22703/ftsh-smt-22703900.pdf?src-supplier=Element14; ComponentLink5Description: https://datasheet.ciiva.com/22703/ftsh-smt-22703900.pdf?src-supplier=Element14; Supplier 1: Digi-Key; Supplier Part Number 1: SAM8799-ND; RoHS: Yes; Category: Headers and Wire Housings; Stock 1: 34196; Pricing 1: 1=3,91000, 10=3,75700, 100=3,13100, 500=2,66136, 1000=2,26998 (USD); Mount: Surface Mount; Contact Plating: Gold; Contact Material: Bronze; Housing Color: Black; Housing Material: Polymer; Color: Black; Min Operating Temperature: -55°C; Max Operating Temperature: 125°C; Number of Rows: 2; Termination: Solder; Packaging: Rail/Tube; Orientation: Straight; Package Quantity: 1; Number of Positions: 10; Series: FTSH; Contact Type: Male Pin; Length: 6.35mm; Pitch: 1.27mm; Depth: 3.43mm; Contact Mating Length: 0.12inch; Radiation Hardening: No; Lead Free: Lead Free; RoHS Compliant: Yes; REACH SVHC: No SVHC
footprint SMTC-FTSH-105-01-L-DV-K_V (CONN, 10-Leads, Body 6.35x3.43mm, Pitch 1.27mm)
pins: 1, 2, 3, 4, 5, 6, 7, 8, 9, 10

## CMP-2000-05353-1_3
designator P?, comment JTAG
CONN HEADER SMD 10POS 1.27MM; Manufacturer: Samtec; Manufacturer Part Number: FTSH-105-01-L-DV-K; Number of Contacts: 10; Gender: Male; Max Current Rating: 1.75A; Connector Type: Male Pin; Row Spacing: 0.05inch; ComponentLink1URL: https://datasheet.ciiva.com/26936/getdatasheetpartid-175877-26936879.pdf?src-supplier=Verical; ComponentLink1Description: https://datasheet.ciiva.com/26936/getdatasheetpartid-175877-26936879.pdf?src-supplier=Verical; ComponentLink2URL: https://datasheet.ciiva.com/728/ftsh-1xx-xx-xxx-dv-xxx-mkt-728872.pdf?src-supplier=Digi-Key; ComponentLink2Description: https://datasheet.ciiva.com/728/ftsh-1xx-xx-xxx-dv-xxx-mkt-728872.pdf?src-supplier=Digi-Key; ComponentLink3URL: https://datasheet.ciiva.com/10245/ftsh-mt-10245272.pdf?src-supplier=Avnet; ComponentLink3Description: https://datasheet.ciiva.com/10245/ftsh-mt-10245272.pdf?src-supplier=Avnet; ComponentLink4URL: https://datasheet.ciiva.com/16657/ftsh-mt-16657372.pdf?src-supplier=Avnet+Europe; ComponentLink4Description: https://datasheet.ciiva.com/16657/ftsh-mt-16657372.pdf?src-supplier=Avnet+Europe; ComponentLink5URL: https://datasheet.ciiva.com/22703/ftsh-smt-22703900.pdf?src-supplier=Element14; ComponentLink5Description: https://datasheet.ciiva.com/22703/ftsh-smt-22703900.pdf?src-supplier=Element14; Supplier 1: Digi-Key; Supplier Part Number 1: SAM8799-ND; RoHS: Yes; Category: Headers and Wire Housings; Stock 1: 34196; Pricing 1: 1=3,91000, 10=3,75700, 100=3,13100, 500=2,66136, 1000=2,26998 (USD); Mount: Surface Mount; Contact Plating: Gold; Contact Material: Bronze; Housing Color: Black; Housing Material: Polymer; Color: Black; Min Operating Temperature: -55°C; Max Operating Temperature: 125°C; Number of Rows: 2; Termination: Solder; Packaging: Rail/Tube; Orientation: Straight; Package Quantity: 1; Number of Positions: 10; Series: FTSH; Contact Type: Male Pin; Length: 6.35mm; Pitch: 1.27mm; Depth: 3.43mm; Contact Mating Length: 0.12inch; Radiation Hardening: No; Lead Free: Lead Free; RoHS Compliant: Yes; REACH SVHC: No SVHC
footprint SMTC-FTSH-105-01-L-DV-K_V (CONN, 10-Leads, Body 6.35x3.43mm, Pitch 1.27mm)
pins: 1, 2, 3, 4, 5, 6, 7, 8, 9, 10

## CMP-2000-05353-1_4
designator P?, comment JTAG
CONN HEADER SMD 10POS 1.27MM; Manufacturer: Samtec; Manufacturer Part Number: FTSH-105-01-L-DV-K; Number of Contacts: 10; Gender: Male; Max Current Rating: 1.75A; Connector Type: Male Pin; Row Spacing: 0.05inch; ComponentLink1URL: https://datasheet.ciiva.com/26936/getdatasheetpartid-175877-26936879.pdf?src-supplier=Verical; ComponentLink1Description: https://datasheet.ciiva.com/26936/getdatasheetpartid-175877-26936879.pdf?src-supplier=Verical; ComponentLink2URL: https://datasheet.ciiva.com/728/ftsh-1xx-xx-xxx-dv-xxx-mkt-728872.pdf?src-supplier=Digi-Key; ComponentLink2Description: https://datasheet.ciiva.com/728/ftsh-1xx-xx-xxx-dv-xxx-mkt-728872.pdf?src-supplier=Digi-Key; ComponentLink3URL: https://datasheet.ciiva.com/10245/ftsh-mt-10245272.pdf?src-supplier=Avnet; ComponentLink3Description: https://datasheet.ciiva.com/10245/ftsh-mt-10245272.pdf?src-supplier=Avnet; ComponentLink4URL: https://datasheet.ciiva.com/16657/ftsh-mt-16657372.pdf?src-supplier=Avnet+Europe; ComponentLink4Description: https://datasheet.ciiva.com/16657/ftsh-mt-16657372.pdf?src-supplier=Avnet+Europe; ComponentLink5URL: https://datasheet.ciiva.com/22703/ftsh-smt-22703900.pdf?src-supplier=Element14; ComponentLink5Description: https://datasheet.ciiva.com/22703/ftsh-smt-22703900.pdf?src-supplier=Element14; Supplier 1: Digi-Key; Supplier Part Number 1: SAM8799-ND; RoHS: Yes; Category: Headers and Wire Housings; Stock 1: 34196; Pricing 1: 1=3,91000, 10=3,75700, 100=3,13100, 500=2,66136, 1000=2,26998 (USD); Mount: Surface Mount; Contact Plating: Gold; Contact Material: Bronze; Housing Color: Black; Housing Material: Polymer; Color: Black; Min Operating Temperature: -55°C; Max Operating Temperature: 125°C; Number of Rows: 2; Termination: Solder; Packaging: Rail/Tube; Orientation: Straight; Package Quantity: 1; Number of Positions: 10; Series: FTSH; Contact Type: Male Pin; Length: 6.35mm; Pitch: 1.27mm; Depth: 3.43mm; Contact Mating Length: 0.12inch; Radiation Hardening: No; Lead Free: Lead Free; RoHS Compliant: Yes; REACH SVHC: No SVHC
footprint SMTC-FTSH-105-01-L-DV-K_V (CONN, 10-Leads, Body 6.35x3.43mm, Pitch 1.27mm)
pins: 1, 2, 3, 4, 5, 6, 7, 8, 9, 10

## CMP-2000-06721-2
designator J?, comment MM8130-2600RA2
CONN SWF RCPT STR 50 OHM SMD; Manufacturer: Murata; Frequency: 6GHz; Number Of Contacts: 2; Conn Orientation: Vertical; Impedance: 50Ω; Automotive: No; Device Class L2: RF / Coaxial Connectors; Height: 1.5mm; RoHS: TRUE; Temperature Range High: +85°C; ComponentLink2URL: https://media.digikey.com/pdf/Data%20Sheets/Murata%20PDFs/Microwave_Coaxial_Conn_Cat030E.pdf; ComponentLink2Description: Datasheet; Temperature Range Low: -40°C; Lead Free: Yes; Device Class L1: Connectors; Octopart: https://octopart.com/mm8130-2600ra2-murata-7861560; Category: Conn; Device Class L3: unset; Mouser Description: RF Connectors / Coaxial Connectors CONNECTOR; Package: 0; Temperature: -40°C to +85°C; Contact Material: Gold; Manufacturer Part Number: MM8130-2600RA2; Digikey Description: CONN SWF RCPT STR 50 OHM SMD
footprint FP-MM8130-2600RA2-MFG
pins: 1 IN, 2 OUT, 3 GROUND (power), 4 GROUND (power), 5 GROUND (power), 6 GROUND (power)

## CMP-2002-07502-1
designator R?, comment RC0402FR-0720RL  (value not drawn)
Manufacturer: Yageo / Phycomp; Part Number: RC0402FR-0720RL
footprint RESC1005X40X25LL05T10 (Chip Resistor, 2-Leads, Body 1.00x0.50mm, IPC High Density)
footprint RESC1005X40X25NL05T10 (Chip Resistor, 2-Leads, Body 1.00x0.50mm, IPC Medium Density)
footprint RESC1005X40X25ML05T10 (Chip Resistor, 2-Leads, Body 1.00x0.50mm, IPC Low Density)
pins: 1, 2
1 alternate drawing of the same symbol

## CMP-2005-00172-1
designator R?, comment 0R
Part Number: CRCW12100000Z0EAHP; Manufacturer: Vishay Dale
footprint RESC3225X60X45ML20T20 (Chip Resistor, 2-Leads, Body 3.20x2.50mm, IPC Low Density)
footprint RESC3225X60X45NL20T20 (Chip Resistor, 2-Leads, Body 3.20x2.50mm, IPC Medium Density)
footprint RESC3225X60X45LL20T20 (Chip Resistor, 2-Leads, Body 3.20x2.50mm, IPC High Density)
pins: 1, 2
1 alternate drawing of the same symbol

## CMP-2006-02256-2
designator C?, comment 4.7uF
CAP CER 4.7UF 6.3V X5R 0603; Manufacturer: Kemet; Manufacturer Part Number: C0603C475K9PACTU; Temperature Coefficient: 15%; Tolerance: 10%; Material: Ceramic; Device Class L3: Ceramic Capacitors; RoHS: TRUE; Value: 4.7uF; Lead Free: Yes; ComponentLink2Description: Datasheet; Mouser Description: Multilayer Ceramic Capacitors MLCC - SMD/SMT 6.3volts 4.7uF X5R 10%; Package: C0603-CG; Digikey Description: CAP CER 4.7UF 6.3V X5R 0603; ComponentLink2URL: https://content.kemet.com/datasheets/KEM_C1006_X5R_SMD.pdf; Category: Cap; Temperature Range Low: -55°C; Capacitance: 4.7uF; Temperature: -55°C to +85°C; Octopart: https://octopart.com/c0603c475k9pactu-kemet-104242; Ipc Land Pattern Name: CAPC16080X80; Voltage Rating: 6.3V; Temperature Range High: +85°C; Height: 0.9mm; Temperature Characteristic: X5R; Device Class L1: Passive Components; Automotive: No; Device Class L2: Capacitors
footprint FP-C0603-CG-MFG
footprint FP-C0603-CG-IPC_C
footprint FP-C0603-CG-IPC_B
footprint FP-C0603-CG-IPC_A
pins: 1, 2

## CMP-2006-03879-3
designator C?, comment 22n
Ceramic Capacitor 0.022Uf 50V, X7R, 10%, 0603, Full Reel; Manufacturer Part Number: C0603C223K5RACTU; Manufacturer: KEMET; Automotive Grade: Grade 1; Capacitance: 22,000 pF; Value: 22,000 pF; Tolerance: 0.1; Temperature Coefficient: 30ppm/°C; Material: Ceramic; Mouser Description: Capacitor; Ceramic; Cap; .022uF; Tol+10%; SMT; Vol-Rtg 50V; X7R; TR; Voltage Rating: 50 V; Category: Cap; Device Class L2: Capacitors; RoHS: TRUE; Package: C0603C-CF; Device Class L1: Passive Components; Temperature Range Low: -55°C; Octopart: https://octopart.com/c0603c223k5ractu-kemet-97352; Temperature: -55°C to +125°C; Temperature Range High: +125°C; Automotive: Yes; Lead Free: Yes; ComponentLink2URL: https://api.kemet.com/component-edge/download/datasheet/C0603C100J5GACAUTO.pdf; Temperature Characteristic: X7R; Height: 0.87mm; Device Class L3: Ceramic Capacitors; Digikey Description: Ceramic Capacitor 0.022Uf 50V, X7R, 10%, 0603, Full Reel; ComponentLink2Description: Datasheet
footprint FP-C0603C-CF-MFG
footprint FP-C0603C-CF-IPC_C
footprint FP-C0603C-CF-IPC_B
footprint FP-C0603C-CF-IPC_A
pins: 1, 2

## CMP-2006-04345-1
designator C?, comment 06035A5R6JAT2A
Manufacturer: AVX Interconnect / Elco; Part Number: 06035A5R6JAT2A
footprint CAPC1608X90X35ML15T15 (Chip Capacitor, 2-Leads, Body 1.60x0.81mm, IPC Low Density)
footprint CAPC1608X90X35LL15T15 (Chip Capacitor, 2-Leads, Body 1.60x0.81mm, IPC High Density)
footprint CAPC1608X90X35NL15T15 (Chip Capacitor, 2-Leads, Body 1.60x0.81mm, IPC Medium Density)
pins: 1, 2
1 alternate drawing of the same symbol

## CMP-2100-03662-2
designator R?, comment RC0603FR-07100KL  Resistance: 100kR
RES SMD 100K OHM 1% 1/10W 0603; Voltage Rating (DC): 50V; Max Power Dissipation: 100mW; Temperature Coefficient: 100ppm/°C; Working Voltage: 75V; Length: 1.6mm; Lead Free: Lead Free; Number of Terminations: 2; Packaging: Tape and Reel; Voltage Rating: 50V; Termination: SMD/SMT; Width: 0.8mm; Resistor Type: Thick Film; Resistance Tolerance: 1%; Features: Moisture Resistant; Height: 0.45mm; Construction: Rectangular; Case/Package: 0603; Military Standard: Not; Case Code (Imperial): 0603; Series: RC; Technology: THICK FILM; Depth: 0.8mm; RoHS Compliant: Yes; REACH SVHC: No SVHC; Min Operating Temperature: -55°C; Case Code (Metric): 1608; Max Operating Temperature: 155°C; Power Rating: 100mW; Number of Pins: 2; Tolerance: 1%
footprint FP-RC0603-0_55-MFG
footprint FP-RC0603-0_55-IPC_C
footprint FP-RC0603-0_55-IPC_B
footprint FP-RC0603-0_55-IPC_A
pins: 1, 2

## CMP-03402-000018-1
designator SW?, comment RESET
SWITCH TACTILE SPST-NO 0.05A 24V; Manufacturer: TE Connectivity; Manufacturer Part Number: 1-1825027-7; Mechanical Life: 100000Cycles; Actuator Material: PBT; Actuator Color: White; Throw Configuration: SPST; Operating Force: 1.57N; Illumination Type: Non-Illuminated; Contact Resistance: 100mR; Contact Current Rating: 50mA; Switch Travel: 0.25mm; Switch Function: Off-Mom; Actuator Type: Standard; Actuator Length: 4.24mm; Supplier 1: Digi-Key; Supplier Part Number 1: 450-1660-ND; RoHS: Yes; Category: Pushbutton Switches; Stock 1: 84971; Pricing 1: 1=0,22000, 10=0,21600, 25=0,20480, 100=0,18530, 250=0,16896, 500=0,15706, 1000=0,13399, 2500=0,13026, 5000=0,12282 (USD); Mount: Through Hole; Contact Material: Copper Alloy; Contact Plating: Silver; Min Operating Temperature: -35°C; Max Operating Temperature: 85°C; Voltage Rating (DC): 24V; Package Quantity: 1000; Termination: PC Pins; Packaging: Loose Piece; Max Voltage Rating (DC): 24V; Max Current Rating: 50mA; Electrical Life: 100000Cycles; Orientation: Right Angle; Type: Switch; Series: FSMRAJ, Alcoswitch; Length: 7.11mm; Depth: 10.86mm; Radiation Hardening: No; RoHS Compliant: Yes; ELV: Compliant; Lead Free: Lead Free; ComponentLink1URL: https://datasheet.ciiva.com/30230/eng-cd-1825027-f-30230181.pdf?src-supplier=Onlinecomponents.com; ComponentLink1Description: https://datasheet.ciiva.com/30230/eng-cd-1825027-f-30230181.pdf?src-supplier=Onlinecomponents.com; ComponentLink2URL: https://datasheet.ciiva.com/15184/getdatasheetpartid-160741-15184438.pdf?src-supplier=Verical; ComponentLink2Description: https://datasheet.ciiva.com/15184/getdatasheetpartid-160741-15184438.pdf?src-supplier=Verical; ComponentLink3URL: https://datasheet.ciiva.com/16535/eng-cd-1825027-g4-16535162.pdf?src-supplier=Avnet+Europe; ComponentLink3Description: https://datasheet.ciiva.com/16535/eng-cd-1825027-g4-16535162.pdf?src-supplier=Avnet+Europe; ComponentLink4URL: https://datasheet.ciiva.com/8164/eng-cd-1825027-g4-8164763.pdf?src-supplier=Avnet; ComponentLink4Description: https://datasheet.ciiva.com/8164/eng-cd-1825027-g4-8164763.pdf?src-supplier=Avnet; ComponentLink5URL: https://datasheet.ciiva.com/45260/fsmseries-45260031.pdf?src-supplier=Digi-Key; ComponentLink5Description: https://datasheet.ciiva.com/45260/fsmseries-45260031.pdf?src-supplier=Digi-Key
footprint FP-1-1825027-7-MFG
pins: 1, 2, 3 MNT 1, 4 MNT 2

## CMP-03412-003923-1
designator R?, comment RT0603FRE07470KL  Resistance: 470KΩ
RES SMD 470K OHM 1% 1/10W 0603; Manufacturer: Yageo; Power Rating: 0.1W; Value: 470KΩ; Tolerance: 0.01; Voltage Rating: 75V; Temperature Coefficient: 50 ppm/°C; Octopart: https://octopart.com/rt0603fre07470kl-yageo-42624313; Temperature Range High: +155°C; RoHS: TRUE; Digikey Description: RES SMD 470K OHM 1% 1/10W 0603; Temperature: -55°C to +155°C; Automotive: No; Manufacturer Part Number: RT0603FRE07470KL; ComponentLink2Description: Datasheet; Device Class L2: Resistors; Composition: Thin Film; Footprint Url: http://www.yageo.com/exep/pages/download/literatures/PYu-R_Mount_10.pdf; Device Class L1: Passive Components; Category: Res; Mouser Description: Res Thin Film 0603 470K Ohm 1% 0.1W(1/10W) ???}50ppm/???? Molded SMD Paper T/R; Ipc Land Pattern Name: RESC16080X45; Series: RT; ComponentLink2URL: http://www.yageo.com/documents/recent/PYu-RT_1-to-0.01_RoHS_L_9.pdf; Device Class L3: Chip SMD Resistors; Temperature Range Low: -55°C; Package: RT0603; Height: 0.55mm; Lead Free: Yes
footprint FP-RT0603-MFG
footprint FP-RT0603-IPC_C
footprint FP-RT0603-IPC_B
footprint FP-RT0603-IPC_A
pins: 1, 2

## CMP-03412-034007-1
designator R?, comment 49R9
RES SMD 49.9OHM 0.05% 1/10W 0603; Manufacturer: Yageo; Manufacturer Part Number: RT0603WRE0749R9L; Voltage Rating: 75V; Tolerance: 0.0005; Power Rating: 0.1W; Resistance: 49.9Ω; Temperature Coefficient: 50 ppm/°C; Value: 49.9Ω; RoHS: TRUE; Temperature Range Low: -55°C; Device Class L2: Resistors; Device Class L1: Passive Components; Footprint Url: http://www.yageo.com/exep/pages/download/literatures/PYu-R_Mount_10.pdf; Series: RT; Category: Res; Lead Free: Yes; Temperature: -55°C to +155°C; Octopart: https://octopart.com/rt0603wre0749r9l-yageo-71397127; Device Class L3: Chip SMD Resistors; Height: 0.55mm; Digikey Description: RES SMD 49.9OHM 0.05% 1/10W 0603; ComponentLink2Description: Datasheet; ComponentLink2URL: http://www.yageo.com/documents/recent/PYu-RT_1-to-0.01_RoHS_L_9.pdf; Automotive: No; Package: RT0603; Composition: Thin Film; Ipc Land Pattern Name: RESC16080X45; Temperature Range High: +155°C
footprint FP-RT0603-MFG
footprint FP-RT0603-IPC_C
footprint FP-RT0603-IPC_B
footprint FP-RT0603-IPC_A
pins: 1, 2